# Altium schematic symbol library Power Supplies.SchLib: 89 symbols
Pins are listed as number, name and electrical type; pins without a type are passive.

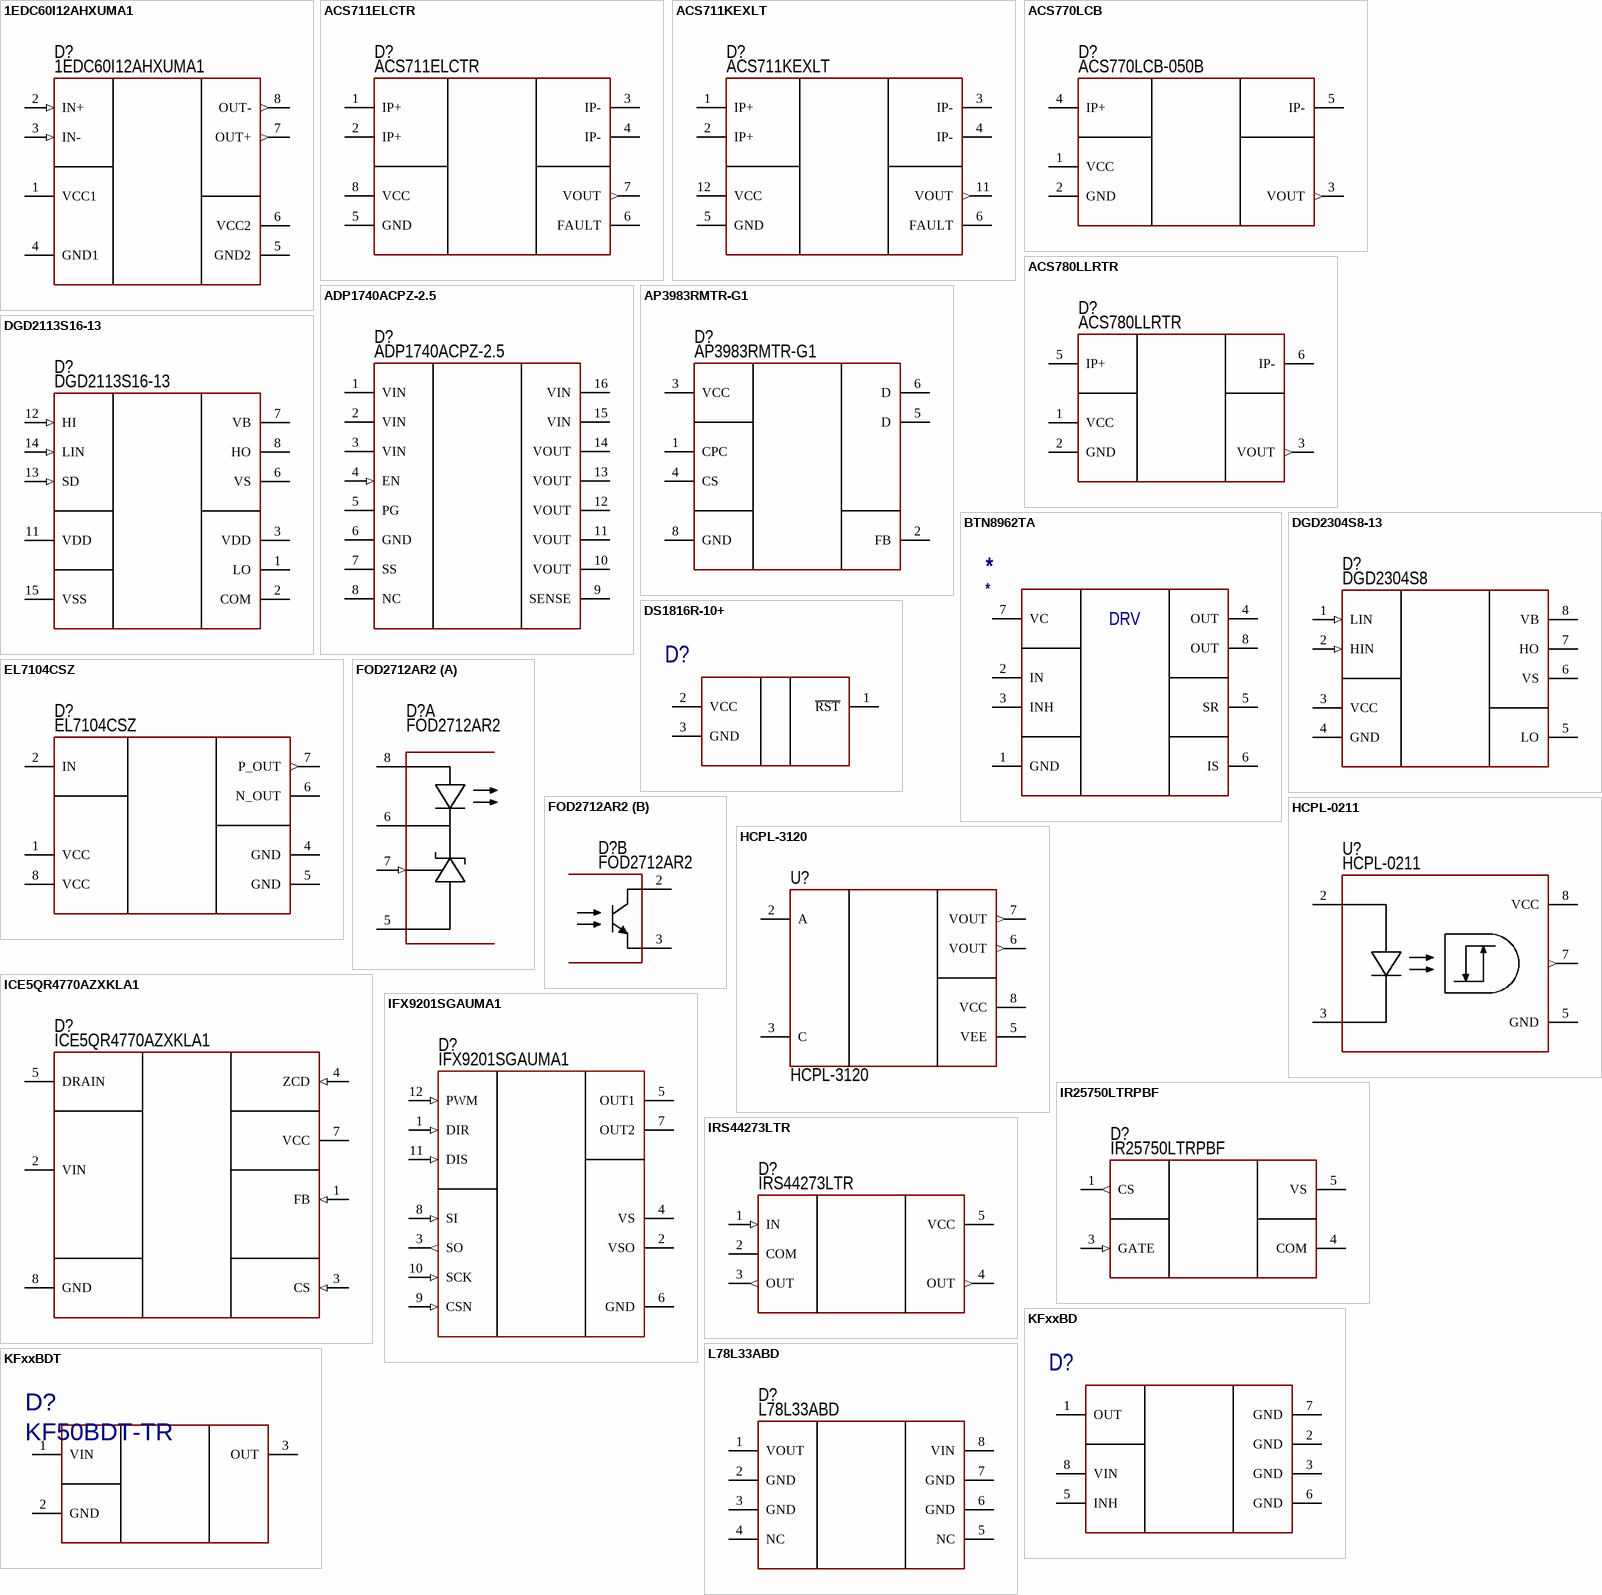
[diagram p0: symbols 1EDC60I12AHXUMA1 to L78L33ABD]

## 1EDC60I12AHXUMA1
designator D?
Driver; Manufacturer: Infineon Technologies; Model: 1EDC60I12AHXUMA1; HelpURL: https://ru.mouser.com/ProductDetail/Infineon-Technologies/1EDC60I12AHXUMA1?qs=%2fha2pyFaduiIlS5yEUGYV6QsF6GkGmNxTXgHdAe519b2q6MWBHFGMw%3d%3d; ComponentKind: 10A
footprint 8-SO (300 mill)
pins: 1 VCC1, 2 IN+ (in), 3 IN- (in), 4 GND1, 5 GND2, 6 VCC2, 7 OUT+ (out), 8 OUT- (out)

## ACS711ELCTR
designator D?
Sensor; Manufacturer: Allegro MicroSystems, LLC; Model: ACS711ELCTR-12AB-T; HelpURL: https://www.digikey.com/product-detail/en/allegro-microsystems-llc/ACS711ELCTR-12AB-T/620-1370-1-ND/2470594; ComponentKind: 8-SOIC
footprint 8-SOIC
pins: 1 IP+, 2 IP+, 3 IP-, 4 IP-, 5 GND, 6 FAULT, 7 VOUT (out), 8 VCC

## ACS711KEXLT
designator D?
Sensor; Manufacturer: Allegro MicroSystems, LLC; Model: ACS711KEXLT-31AB-T; HelpURL: https://www.digikey.com/product-detail/en/allegro-microsystems-llc/ACS711KEXLT-31AB-T/620-1482-1-ND/3868202; ComponentKind: 8-SOIC
footprint 12-WFQFN
pins: 1 IP+, 2 IP+, 3 IP-, 4 IP-, 5 GND, 6 FAULT, 11 VOUT (out), 12 VCC

## ACS770LCB
designator D?, comment ACS770LCB-050B
Sensor; Manufacturer: Allegro MicroSystems, LLC; Model: ACS770LCB-050B-PFF-T; HelpURL: https://www.digikey.com/product-detail/en/allegro-microsystems-llc/ACS770LCB-050B-PFF-T/620-1541-5-ND/4473980; ComponentKind: 40 mV/A
footprint IC: ACS770
pins: 1 VCC, 2 GND, 3 VOUT (out), 4 IP+, 5 IP-

## ACS780LLRTR
designator D?
Sensor; Manufacturer: Allegro MicroSystems, LLC; Model: ACS780LLRTR-050B-T; HelpURL: https://www.digikey.com/product-detail/en/allegro-microsystems-llc/ACS711KEXLT-31AB-T/620-1482-1-ND/3868202; ComponentKind: 7-PSOF
footprint 7-PSOF
pins: 1 VCC, 2 GND, 3 VOUT (out), 5 IP+, 6 IP-

## ADP1740ACPZ-2.5
designator D?
LDO; Manufacturer: Analog Devices Inc.; Model: ADP1740ACPZ-2.5-R7; ComponentKind: 16-LFCPS; HelpURL: https://www.digikey.com/product-detail/en/analog-devices-inc/ADP1740ACPZ-2.5-R7/ADP1740ACPZ-2.5-R7CT-ND/2217706
footprint 16-LFCPS (4x4)
pins: 1 VIN, 2 VIN, 3 VIN, 4 EN (in), 5 PG (oc), 6 GND, 7 SS, 8 NC, 9 SENSE, 10 VOUT, 11 VOUT, 12 VOUT, 13 VOUT, 14 VOUT, 15 VIN, 16 VIN

## AP3983RMTR-G1
designator D?
AC-DC; Manufacturer: Diodes Incorporated; Model: AP3983RMTR-G1; HelpURL: https://www.digikey.com/product-detail/en/diodes-incorporated/AP3983RMTR-G1/AP3983RMTR-G1DICT-ND/6181714; ComponentKind: 7-SOIC
footprint 7-SOIC (DIP; 7 Leads; Row Spacing 7.62 mm; Pitch 2.54 mm)
pins: 1 CPC, 2 FB, 3 VCC, 4 CS, 5 D, 6 D, 8 GND

## BTN8962TA
designator *
1-phase motor driver 30A; Manufacturer: Infineon; Model: BTN8962TA; Package: TO-263-7; Link: https://www.infineon.com/dgdl/Infineon-BTN8962TA-DS-v01_00-EN.pdf?fileId=db3a30433fa9412f013fbe2d247a7bf5
pins: 1 GND, 2 IN, 3 INH, 4 OUT, 5 SR, 6 IS, 7 VC, 8 OUT
text: DRV

## DGD2113S16-13
designator D?
Half-bridge; Manufacturer: Diodes Incorporated; Model: DGD2113S16-13; HelpURL: https://www.digikey.com/product-detail/en/diodes-incorporated/DGD2113S16-13/DGD2113S16-13DICT-ND/5823602; ComponentKind: 14-SOIC
footprint 16-SOIC (W)
pins: 1 LO, 2 COM, 3 VDD, 6 VS, 7 VB, 8 HO, 11 VDD (power), 12 HI (in), 13 SD (in), 14 LIN (in), 15 VSS

## DGD2304S8-13
designator D?, comment DGD2304S8
Half-bridge; Manufacturer: Diodes Incorporated; Model: DGD2304S8-13; HelpURL: https://www.digikey.com/product-detail/en/diodes-incorporated/DGD2304S8-13/DGD2304S8-13DICT-ND/6599778; ComponentKind: SO-8
footprint 8-SOIC
pins: 1 LIN (in), 2 HIN (in), 3 VCC, 4 GND, 5 LO, 6 VS, 7 HO, 8 VB

## DS1816R-10+
designator D?  (value not drawn)
3.3V EconoReset with Open Drain Output; Manufacturer: MAXIM; ValueManufacturerPartNumber: DS1816R-10+ MAXIM; Model: DS1816R-10+; Package: SOT-23; HelpURL: https://www.analog.com/media/en/technical-documentation/data-sheets/ds1816.pdf
pins: 1 ~{RST}, 2 VCC, 3 GND

## EL7104CSZ
designator D?
Driver; Manufacturer: Intersil; Model: EL7104CSZ; HelpURL: https://www.digikey.com/product-detail/en/intersil/EL7104CSZ/EL7104CSZ-ND/936206; ComponentKind: 8-SOIC
footprint 8-SOIC
pins: 1 VCC, 2 IN, 4 GND, 5 GND, 6 N_OUT, 7 P_OUT (out), 8 VCC

## FOD2712AR2
designator D?
TL431 and optoisolator; Manufacturer: ON Semiconductor; Model: FOD2712AR2; HelpURL: https://ru.mouser.com/ProductDetail/ON-Semiconductor-Fairchild/FOD2712AR2?qs=sGAEpiMZZMteimceiIVCBwA1J%252bDHtzEiRXt34UMTHvg%3d; ComponentKind: 8-SOIC
footprint 8-SOIC
part A pins: 5 GND (power), 6 COMP (power), 7 FB (in), 8 LED (power)
part B pins: 2 C (power), 3 E (power)

## HCPL-0211
designator U?
Optoisolator; Manufacturer: Broadcom-Limited; Model: HCPL-0211-000E; ComponentKind: 8-DIP; HelpURL: https://www.digikey.com/product-detail/en/broadcom-limited/HCPL-0211-000E/516-1625-5-ND/825261
footprint OPTO: HCPL-3120
pins: 2 A, 3 C, 5 GND, 7 VOUT (out), 8 VCC

## HCPL-3120
designator U?
Optoisolator; Manufacturer: Broadcom-Limited; Model: HCPL-3120-500E; ComponentKind: 8-DIP; HelpURL: https://www.digikey.com/product-detail/en/broadcom-limited/HCPL-3120-500E/516-1789-1-ND/1966495
footprint 8-DIP
footprint OPTO: HCPL-3120
pins: 2 A, 3 C, 5 VEE, 6 VOUT (out), 7 VOUT (out), 8 VCC

## ICE5QR4770AZXKLA1
designator D?
AC-DC; Manufacturer: Infineon Technologies; Model: ICE5QR4770AZXKLA1; HelpURL: https://www.digikey.com/products/en?keywords=ICE5QR4770AZ%20; ComponentKind: PDIP-7
footprint 7-DIP (DIP; 7 Leads; Row Spacing 7.62 mm; Pitch 2.54 mm)
pins: 1 FB (in), 2 VIN (power), 3 CS (in), 4 ZCD (in), 5 DRAIN (power), 7 VCC (power), 8 GND (power)

## IFX9201SGAUMA1
designator D?
Driver motor; Manufacturer: Infineon Technologies; Model: IFX9201SGAUMA1; HelpURL: https://www.digikey.com/product-detail/en/infineon-technologies/IFX9201SGAUMA1/IFX9201SGAUMA1CT-ND/5415560; ComponentKind: 6A
footprint 12-BSOP
pins: 1 DIR (in), 2 VSO, 3 SO (out), 4 VS, 5 OUT1, 6 GND, 7 OUT2, 8 SI (in), 9 CSN (in), 10 SCK (in), 11 DIS (in), 12 PWM (in)

## IR25750LTRPBF
designator D?
Sensor; Manufacturer: Infineon Technologies; Model: IR25750LTRPBF; ComponentKind: SOT23-5; HelpURL: https://www.digikey.com/product-detail/en/infineon-technologies/IR25750LTRPBF/IR25750LTRPBFCT-ND/4743688
footprint SOT23-5 (SOT23, 5-Leads, Body 2,90x2,80mm, Pitch 0,95mm, IPC Medium Density)
pins: 1 CS (out), 3 GATE (in), 4 COM (power), 5 VS (power)

## IRS44273LTR
designator D?
Low driver; Manufacturer: Infineon Technologies; Model: IRS44273LTRPBF; ComponentKind: SOT23-5; HelpURL: https://www.digikey.com/product-detail/en/infineon-technologies/IRS44273LTRPBF/IRS44273LTRPBFCT-ND/4172095
footprint SOT23-5 (SOT23, 5-Leads, Body 2,90x2,80mm, Pitch 0,95mm, IPC Medium Density)
pins: 1 IN (in), 2 COM, 3 OUT (out), 4 OUT (out), 5 VCC

## KFxxBD
designator D?, comment Model  (value not drawn)
Very low drop voltage regulators with inhibit; Manufacturer: ST MICROELECTRONICS; ValueManufacturerPartNumber: KF33BD-TR ST MICROELECTRONICS; Model: KF33BD-TR; Package: SO-8; HelpURL: https://imrad.com.ua/userdata/modules/productFiles/34bwLG9k_KFxx.pdf
footprint 8-SOIC
pins: 1 OUT, 2 GND, 3 GND, 5 INH, 6 GND, 7 GND, 8 VIN

## KFxxBDT
designator D?, comment KF50BDT-TR
Very low drop voltage regulators with inhibit; Manufacturer: ST MICROELECTRONICS; ValueManufacturerPartNumber: KF50BDT-TR ST MICROELECTRONICS; Model: KF50BDT-TR; HelpURL: https://www.digikey.at/en/products/detail/stmicroelectronics/KF50BDT-TR/585673; Package: DPAK
pins: 1 VIN, 2 GND, 3 OUT

## L78L33ABD
designator D?
LDO; Manufacturer: STMicroelectronics; Model: L78L33ABD-TR; HelpURL: https://www.digikey.com/product-detail/en/stmicroelectronics/L78L33ABD-TR/497-7285-1-ND/1883420; ComponentKind: 100 mA
footprint 8-SOIC
footprint 8-WSON (4x4 mm)
pins: 1 VOUT, 2 GND, 3 GND, 4 NC, 5 NC, 6 GND, 7 GND, 8 VIN

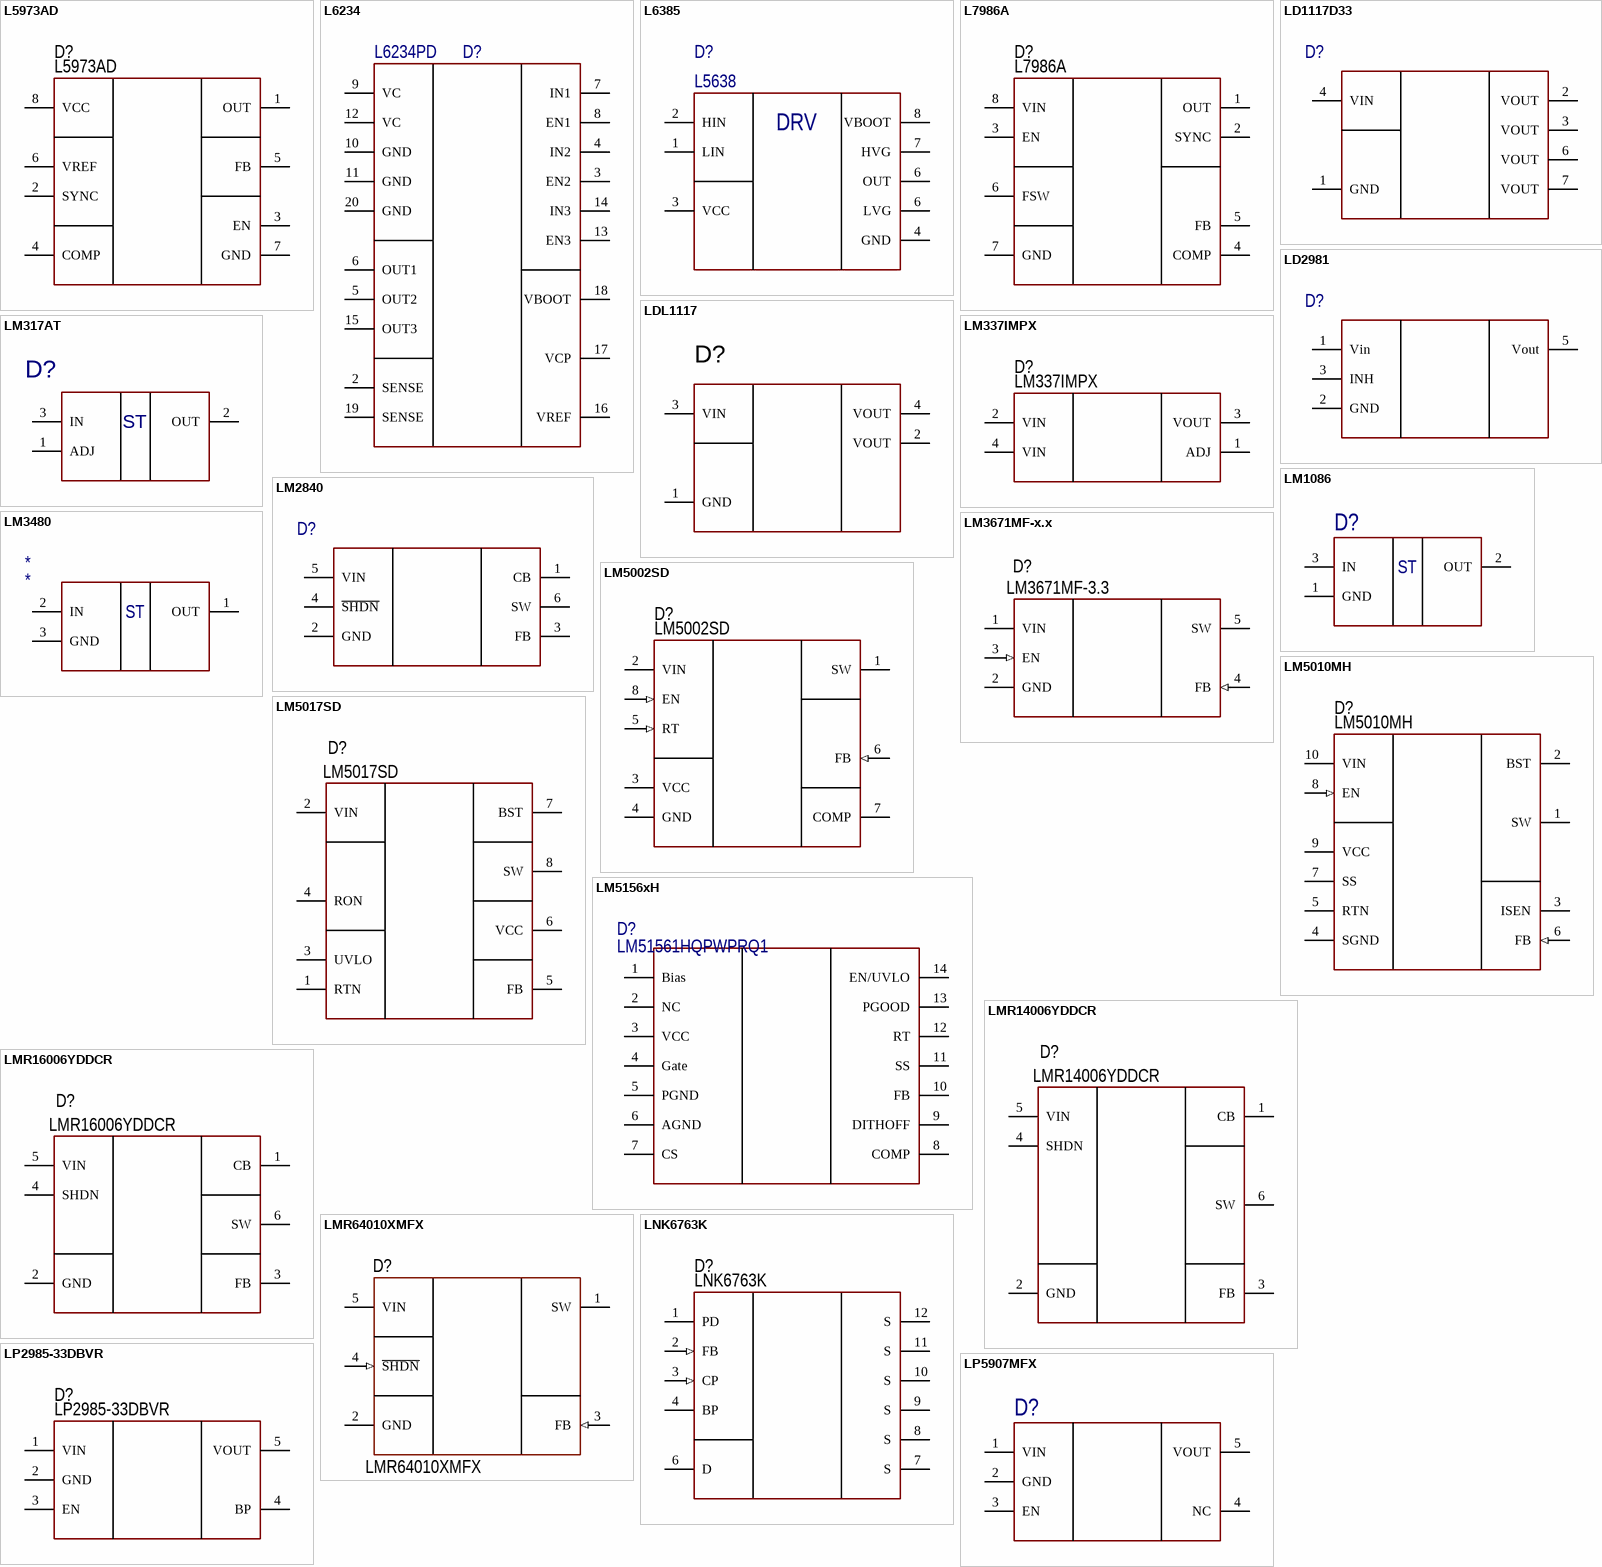
[diagram p1: symbols L5973AD to LP5907MFX]

## L5973AD
designator D?
Step-down; Manufacturer: STMicroelectronics; Model: L5973AD; HelpURL: https://www.digikey.com/product-detail/en/stmicroelectronics/L5973AD/497-4565-5-ND/585938; ComponentKind: 8-SOIC
footprint 8-SOIC (PAD)
pins: 1 OUT, 2 SYNC, 3 EN, 4 COMP, 5 FB, 6 VREF, 7 GND, 8 VCC

## L6234
designator D?, comment L6234PD
3-phase motor driver; Manufacturer: STMicroelectronics; Model: L6234PD; Package: PowerSO-20; Link: https://www.st.com/resource/en/datasheet/l6234.pdf
footprint 20-TSSOP (PAD)
pins: 2 SENSE, 3 EN2, 4 IN2, 5 OUT2, 6 OUT1, 7 IN1, 8 EN1, 9 VC, 10 GND, 11 GND, 12 VC, 13 EN3, 14 IN3, 15 OUT3, 16 VREF, 17 VCP, 18 VBOOT, 19 SENSE, 20 GND

## L6385
designator D?, comment L5638
Manufacturer: STMicroelectronics; Model: L5638; Package: DIP-8; HelpURL: https://www.st.com/resource/en/datasheet/CD00001382.pdf
footprint 8-DIP
pins: 1 LIN, 2 HIN, 3 VCC, 4 GND, 6 OUT, 6 LVG, 7 HVG, 8 VBOOT
text: DRV

## L7986A
designator D?
Step-down; Manufacturer: STMicroelectronics; Model: L7986A; HelpURL: https://www.digikey.com/product-detail/en/stmicroelectronics/L7986A/497-14791-5-ND/4357446; ComponentKind: 8-SOIC
footprint 8-SOIC (PAD)
pins: 1 OUT, 2 SYNC, 3 EN, 4 COMP, 5 FB, 6 FSW, 7 GND, 8 VIN

## LD1117D33
designator D?  (value not drawn)
0.5A linear regulator; Manufacturer: ST MICROELECTRONICS; Model: LD1117D33; HelpURL: https://www.digikey.com/en/products/detail/stmicroelectronics/LD1117D33TR/1165909; Package: SOIC-8
footprint 8-SOIC
pins: 1 GND (power), 2 VOUT (power), 3 VOUT (power), 4 VIN (power), 6 VOUT, 7 VOUT

## LD2981
designator D?, comment LD2981ABM50TR  (value not drawn)
100 mA LDO; Manufacturer: ST MICTOELECTRONICS; ValueManufacturerPartNumber: LD2981ABM50TR ST MICTOELECTRONICS; Model: LD2981ABM50TR; HelpURL: https://www.st.com/content/ccc/resource/technical/document/datasheet/group1/b7/b5/a1/83/9c/bd/4a/90/CD00001635/files/CD00001635.pdf/jcr:content/translations/en.CD00001635.pdf; Package: SOT23-5L
pins: 1 Vin (power), 2 GND, 3 INH, 5 Vout

## LDL1117
designator D?, comment LDL1117S33R  (value not drawn)
LDO; Manufacturer: STMicroelectronics; ValueManufacturerPartNumber: LDL1117S33R STMicroelectronics; Model: LDL1117S33R; HelpURL: https://www.digikey.com/en/products/detail/stmicroelectronics/LDL1117S50R/7102072; ComponentKind: SOT-223
footprint SOT223 (SOT223, 4-Leads, Body 6,50x7,00mm (avg), Pitch 2,30mm, IPC Medium Density)
pins: 1 GND (power), 2 VOUT (power), 3 VIN (power), 4 VOUT (power)

## LM317AT
designator D?, comment LM317AT/NOPB  (value not drawn)
1.5-A, 40-V, adjustable linear voltage regulator with high-accuracy; Manufacturer: TEXAS INSTRUMENTS; ValueManufacturerPartNumber: LM317AT/NOPB TEXAS INSTRUMENTS; Model: LM317AT/NOPB; HelpURL: https://www.ti.com/product/LM317A/part-details/LM317AT/NOPB; Package: TO-220
pins: 1 ADJ, 2 OUT, 3 IN
text: ST

## LM337IMPX
designator D?
LDO adj; Model: LM337IMPX/NOPB; Model: Texas Instruments; HelpURL: https://www.digikey.com/product-detail/en/texas-instruments/LM337IMPX-NOPB/LM337IMPX-NOPBCT-ND/3526950; ComponentKind: SOT-223
footprint SOT223 (SOT223, 4-Leads, Body 6,50x7,00mm (avg), Pitch 2,30mm, IPC Medium Density)
pins: 1 ADJ, 2 VIN, 3 VOUT (power), 4 VIN

## LM1086
designator D?  (value not drawn)
1.5A LDO positive regulator; Manufacturer: National Semiconductor; Model: LM1086; Link: https://www.farnell.com/datasheets/36822.pdf
footprint Model Name (Footprint not found)
pins: 1 GND, 2 OUT, 3 IN
text: ST

## LM2840
designator D?  (value not drawn)
Manufacturer: Texas Instruments; Model: LM284x(0,2,3); Package: SOT-23-6; HelpURL: http://www.ti.com/product/LM2841
footprint SOT23-6 (SOT23, 6-Leads, Body 2,90x2,45mm, Pitch 0,95mm, IPC Medium Density)
pins: 1 CB (power), 2 GND (power), 3 FB, 4 ~{SHDN} (hiz), 5 VIN (power), 6 SW (power)

## LM3480
designator *
3.3/5/12V 100mA LDO; Manufacturer: TEXAS INSTRUMENTS; Model: LM3480; ComponentKind: *
footprint SOT23_132 (SOT23, 3-Leads, Body 3,0x2,6mm (max), Pitch 0,95mm, IPC Medium Density)
pins: 1 OUT, 2 IN, 3 GND
text: ST

## LM3671MF-x.x
designator D?, comment LM3671MF-3.3
Step-down; Manufacturer: Texas Instruments; Model: LM3671MF-3.3/NOPB; HelpURL: https://www.digikey.com/product-detail/en/texas-instruments/LM3671MF-3.3-NOPB/LM3671MF-3.3-NOPBCT-ND/1590190; ComponentKind: SOT23-5
footprint SOT23-5 (SOT23, 5-Leads, Body 2,90x2,80mm, Pitch 0,95mm, IPC Medium Density)
pins: 1 VIN (power), 2 GND (power), 3 EN (in), 4 FB (in), 5 SW (power)

## LM5002SD
designator D?
SEPIC; Manufacturer: Texas Instruments; Model: LM5002SD/NOPB; HelpURL: https://www.digikey.com/product-detail/en/texas-instruments/LM5002SD-NOPB/LM5002SD-NOPBCT-ND/1836135; ComponentKind: 8-SOIC
footprint 8-SOIC
footprint 8-WSON (4x4 mm)
pins: 1 SW, 2 VIN, 3 VCC, 4 GND, 5 RT (in), 6 FB (in), 7 COMP, 8 EN (in)

## LM5010MH
designator D?
Step-down; Manufacturer: Texas Instruments; Model: LM5010MH/NOPB; HelpURL: https://www.digikey.com/products/en?keywords=LM5010MH%2FNOPB; ComponentKind: 14-TSSOP
footprint 10-WSON (4x4 mm)
pins: 1 SW, 2 BST, 3 ISEN, 4 SGND, 5 RTN, 6 FB (in), 7 SS, 8 EN (in), 9 VCC, 10 VIN

## LM5017SD
designator D?
Step-down; Manufacturer: Texas Instruments; Model: LM5017SD/NOPB; HelpURL: https://www.digikey.com/product-detail/en/texas-instruments/LM5017SD-NOPB/LM5017SD-NOPBCT-ND/3137455; ComponentKind: 8-WDFN
footprint 8-WDFN (4x4 mm)
pins: 1 RTN, 2 VIN, 3 UVLO, 4 RON, 5 FB, 6 VCC, 7 BST, 8 SW

## LM5156xH
designator D?, comment LM51561HQPWPRQ1
Non-synchronous Boost/SEPIC/Flyback Controller; Manufacturer: TEXAS INSTRUMENTS; Model: LM51561HQPWPRQ1; HelpURL: https://www.ti.com/product/LM5156H; Package: HTSSOP-14
pins: 1 Bias "exposed metal paddle on the bottom", 2 NC "exposed metal paddle on the bottom", 3 VCC "exposed metal paddle on the bottom", 4 Gate "exposed metal paddle on the bottom", 5 PGND "exposed metal paddle on the bottom", 6 AGND "exposed metal paddle on the bottom", 7 CS "exposed metal paddle on the bottom", 8 COMP "exposed metal paddle on the bottom", 9 DITHOFF "exposed metal paddle on the bottom", 10 FB "exposed metal paddle on the bottom", 11 SS, 12 RT, 13 PGOOD, 14 EN/UVLO

## LMR14006YDDCR
designator D?
Step-down; Manufacturer: Texas Instruments; Model: LMR14006YDDCR; HelpURL: https://www.digikey.com/product-detail/en/texas-instruments/LMR14006YDDCR/296-44319-1-ND/6110593; ComponentKind: SOT23-6
footprint SOT23-6 (SOT23, 6-Leads, Body 2,90x2,45mm, Pitch 0,95mm, IPC Medium Density)
pins: 1 CB (power), 2 GND (power), 3 FB (power), 4 SHDN (power), 5 VIN (power), 6 SW (power)

## LMR16006YDDCR
designator D?
Step-down; Manufacturer: Texas Instruments; Model: LMR16006YDDCR; HelpURL: https://www.digikey.com/product-detail/en/texas-instruments/LMR16006YDDCR/296-40294-1-ND/5178171; ComponentKind: SOT23-6
footprint SOT23-6 (SOT23, 6-Leads, Body 2,90x2,45mm, Pitch 0,95mm, IPC Medium Density)
pins: 1 CB (power), 2 GND (power), 3 FB (power), 4 SHDN (power), 5 VIN (power), 6 SW (power)

## LMR64010XMFX
designator D?
Step-down; Manufacturer: Texas Instruments; Model: LMR64010XMFX/NOPB; HelpURL: https://www.digikey.com/product-detail/en/texas-instruments/LMR64010XMFX-NOPB/296-38771-1-ND/5125873; ComponentKind: SOT23-5
footprint SOT23-5 (SOT23, 5-Leads, Body 2,90x2,80mm, Pitch 0,95mm, IPC Medium Density)
pins: 1 SW, 2 GND, 3 FB (in), 4 ~{SHDN} (in), 5 VIN

## LNK6763K
designator D?
AC-DC; Manufacturer: Power Integrations; Model: LNK6763K; HelpURL: https://ru.mouser.com/ProductDetail/Power-Integrations/LNK6763K?qs=sGAEpiMZZMupfmEBr0XgrNIjmfCWM7Y3iCpws1J1Jg1HNca2zLN38A%3d%3d; ComponentKind: eSOP-12B
footprint 12-eSOP
pins: 1 PD (power), 2 FB (in), 3 CP (in), 4 BP (power), 6 D (power), 7 S (power), 8 S (power), 9 S (power), 10 S (power), 11 S (power), 12 S (power)

## LP2985-33DBVR
designator D?
LDO; Model: Texas Instruments; Model: LP2985-33DBVR; HelpURL: https://www.digikey.com/product-detail/en/texas-instruments/LP2985-33DBVR/296-18476-1-ND/809911; ComponentKind: SOT-23-5
footprint SOT23-5 (SOT23, 5-Leads, Body 2,90x2,80mm, Pitch 0,95mm, IPC Medium Density)
pins: 1 VIN, 2 GND, 3 EN (power), 4 BP, 5 VOUT

## LP5907MFX
designator D?, comment LP5907MFX-3.3/NOPB  (value not drawn)
250-mA, Ultra-Low-Noise, Low-Iq LDO; Manufacturer: TEXAS INSTRUMENTS; ValueManufacturerPartNumber: LP5907MFX-3.3/NOPB TEXAS INSTRUMENTS; Model: LP5907MFX-3.3/NOPB; HelpURL: https://www.ti.com/lit/ds/symlink/lp5907.pdf; Package: SOT-23
pins: 1 VIN, 2 GND, 3 EN (power), 4 NC, 5 VOUT

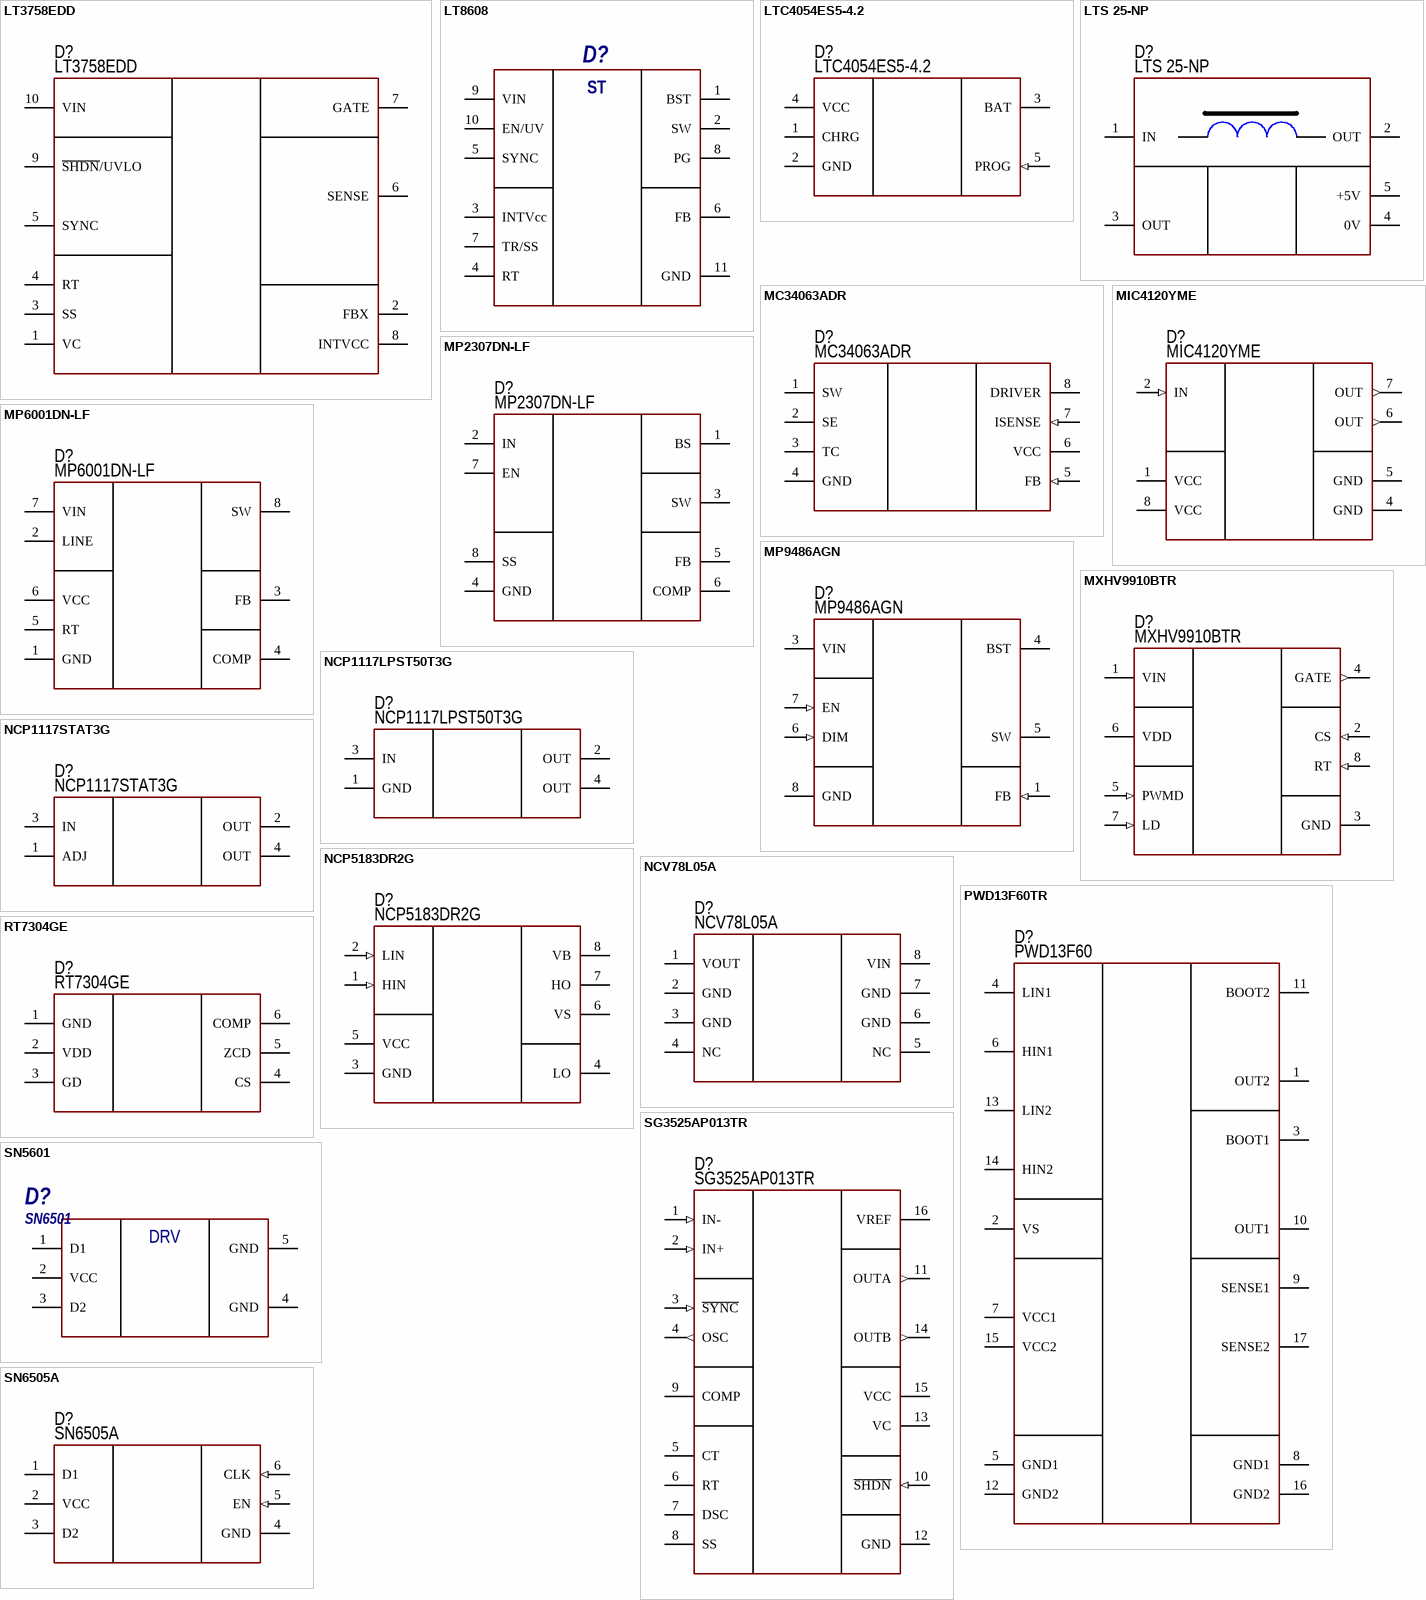
[diagram p2: symbols LT3758EDD to SN6505A]

## LT3758EDD
designator D?
SEPIC; Manufacturer: Linear Technology; Model: LT3758EDD#PBF; HelpURL: https://www.digikey.com/product-detail/en/linear-technology/LT3758EDD-PBF/LT3758EDD-PBF-ND/2107630; ComponentKind: 10-DFN
footprint 10-DFN (QFN, 10-Leads, Body 3,00x3,00mm, Pitch 0,50mm, Thermal Pad 3,18x1,58mm, IPC Medium Density)
pins: 1 VC (power), 2 FBX (power), 3 SS (power), 4 RT (power), 5 SYNC (power), 6 SENSE (power), 7 GATE (power), 8 INTVCC (power), 9 ~{SHDN}/UVLO (power), 10 VIN (power)

## LT8608
designator D?, comment LT8608EMSE#TRPBF  (value not drawn)
3.8 to 42V 1.5A buck converter; Manufacture: Analog Devices; Model: LT8608EMSE#TRPBF; Package: Power MSOP-10; Link: https://www.analog.com/media/en/technical-documentation/data-sheets/lt8608.pdf
pins: 1 BST, 2 SW, 3 INTVcc, 4 RT, 5 SYNC, 6 FB, 7 TR/SS, 8 PG, 9 VIN, 10 EN/UV, 11 GND
text: ST

## LTC4054ES5-4.2
designator D?
Li-ion chargers; Manufacturer: Linear Technology; Model: LTC4054ES5-4.2#TRMPBF; ComponentKind: SOT23-5; HelpURL: https://www.digikey.com/product-detail/en/linear-technology/LTC4054ES5-4.2-TRMPBF/LTC4054ES5-4.2-TRMPBFCT-ND/4729365
footprint SOT23-5 (SOT23, 5-Leads, Body 2,90x2,80mm, Pitch 0,95mm, IPC Medium Density)
pins: 1 CHRG (oc), 2 GND, 3 BAT, 4 VCC, 5 PROG (in)

## LTS 25-NP
designator D?
Sensor; Manufacturer: LEM; Model: LTS 25-NP; HelpURL: https://www.digikey.com/product-detail/en/lem-usa-inc/LTS-25-NP/398-1002-ND/409815; ComponentKind: 25A
footprint IC: LTS 25-NP
pins: 1 IN, 2 OUT, 3 OUT, 4 0V, 5 +5V

## MC34063ADR
designator D?
Sensor; Manufacturer: Texas Instruments; Model: MC34063ADR; HelpURL: https://www.digikey.com/product-detail/en/texas-instruments/MC34063ADR/296-17765-1-ND/717456; ComponentKind: 8-SOIC
footprint 8-SOIC
pins: 1 SW, 2 SE, 3 TC, 4 GND, 5 FB (in), 6 VCC (power), 7 ISENSE (in), 8 DRIVER

## MIC4120YME
designator D?
Low driver; Manufacturer: Microchip Technology; Model: MIC4120YME; HelpURL: https://www.digikey.com/product-detail/en/microchip-technology/MIC4120YME/576-1445-ND/952832; ComponentKind: 8-SOIC
footprint 8-SOIC (PAD)
pins: 1 VCC (power), 2 IN (in), 4 GND (power), 5 GND (power), 6 OUT (out), 7 OUT (out), 8 VCC (power)

## MP2307DN-LF
designator D?
Step-down; Manufacturer: Monolithic-Power-Systems-Inc.; Model: MP2307DN-LF; HelpURL: https://www.digikey.com/product-detail/en/monolithic-power-systems-inc/MP2307DN-LF/MP2307DN-LF-ND/5292006; ComponentKind: 8-SOIC
footprint 8-SOIC (PAD)
pins: 1 BS, 2 IN, 3 SW, 4 GND, 5 FB, 6 COMP, 7 EN, 8 SS

## MP6001DN-LF
designator D?
DC-DC; Manufacturer: Monolithic Power Systems Inc.; Model: MP6001DN-LF; HelpURL: https://www.digikey.com/product-detail/en/monolithic-power-systems-inc/MP6001DN-LF/1589-1409-ND/5299166; ComponentKind: 8-SOIC
footprint 8-SOIC (PAD)
pins: 1 GND (power), 2 LINE (power), 3 FB (power), 4 COMP (power), 5 RT (power), 6 VCC (power), 7 VIN (power), 8 SW (power)

## MP9486AGN
designator D?
Buck 100V; Manufacturer: Monolithic Power Systems; Model: MP9486AGN; HelpURL: https://ru.mouser.com/ProductDetail/Monolithic-Power-Systems-MPS/MP9486AGN?qs=sGAEpiMZZMtitjHzVIkrqZzDzZChF5ZsZydRoiA0koGaJF85HB9DFA%3d%3d; ComponentKind: 8-SOIC
footprint 8-SOIC (PAD)
pins: 1 FB (in), 3 VIN, 4 BST, 5 SW, 6 DIM (in), 7 EN (in), 8 GND

## MXHV9910BTR
designator D?
LED; Manufacturer: IXYS; Model: MXHV9910BTR; HelpURL: https://ru.mouser.com/ProductDetail/IXYS-Integrated-Circuits/MXHV9910BTR?qs=sGAEpiMZZMsE420DPIasPpp3DYFWEtAHBJIqVZemVsM%3d; ComponentKind: 450V
footprint 8-SOIC (PAD)
pins: 1 VIN, 2 CS (in), 3 GND, 4 GATE (out), 5 PWMD (in), 6 VDD, 7 LD (in), 8 RT (in)

## NCP1117LPST50T3G
designator D?
LDO; Manufacturer: ON Semiconductor; Model: NCP1117LPST50T3G; HelpURL: https://www.digikey.com/product-detail/en/on-semiconductor/NCP1117LPST50T3G/NCP1117LPST50T3GOSCT-ND/5801728; ComponentKind: SOT-223
footprint SOT223 (SOT223, 4-Leads, Body 6,50x7,00mm (avg), Pitch 2,30mm, IPC Medium Density)
pins: 1 GND, 2 OUT, 3 IN (power), 4 OUT

## NCP1117STAT3G
designator D?
LDO adj; Manufacturer: ON Semiconductor; Model: NCP1117STAT3G; HelpURL: https://www.digikey.com/product-detail/en/on-semiconductor/NCP1117STAT3G/NCP1117STAT3GOSCT-ND/1967218; ComponentKind: SOT-223
footprint SOT223 (SOT223, 4-Leads, Body 6,50x7,00mm (avg), Pitch 2,30mm, IPC Medium Density)
pins: 1 ADJ, 2 OUT, 3 IN (power), 4 OUT

## NCP5183DR2G
designator D?
Half-bridge; Manufacturer: ON Semiconductor; Model: NCP5183DR2G; HelpURL: https://www.digikey.com/product-detail/en/on-semiconductor/NCP5183DR2G/NCP5183DR2GOSCT-ND/7066807; ComponentKind: SO-8
footprint 8-SOIC
pins: 1 HIN (in), 2 LIN (in), 3 GND, 4 LO, 5 VCC, 6 VS, 7 HO, 8 VB

## NCV78L05A
designator D?
LDO; Manufacturer: ON Semiconductor; Model: NCV78L05ABDR2G; HelpURL: https://www.digikey.com/product-detail/en/on-semiconductor/NCV78L05ABDR2G/NCV78L05ABDR2GOSCT-ND/2121802; ComponentKind: 100 mA
footprint 8-SOIC
footprint 8-WSON (4x4 mm)
pins: 1 VOUT, 2 GND, 3 GND, 4 NC, 5 NC, 6 GND, 7 GND, 8 VIN

## PWD13F60TR
designator D?, comment PWD13F60
Driver; Manufacturer: STMicroelectronics; Model: PWD13F60TR; HelpURL: https://eu.mouser.com/ProductDetail/STMicroelectronics/PWD13F60TR?qs=sGAEpiMZZMvQcoNRkxSQkrCct0Ka50aE%252bcYvBLcmx8s%3d; ComponentKind: 10-PowerVFQFN
footprint 10-PowerVFQFN
pins: 1 OUT2 (power), 2 VS (power), 3 BOOT1 (power), 4 LIN1 (power), 5 GND1 (power), 6 HIN1 (power), 7 VCC1 (power), 8 GND1 (power), 9 SENSE1 (power), 10 OUT1 (power), 11 BOOT2 (power), 12 GND2 (power), 13 LIN2 (power), 14 HIN2 (power), 15 VCC2 (power), 16 GND2 (power), 17 SENSE2 (power)

## RT7304GE
designator D?
LED+PFC; Manufacturer: Richtek USA Inc.; Model: RT7304GE; HelpURL: https://www.digikey.com/product-detail/en/richtek-usa-inc/RT7304GE/1028-1279-1-ND/4733238; ComponentKind: SOT23-6
footprint SOT23-6 (SOT23, 6-Leads, Body 2,90x2,45mm, Pitch 0,95mm, IPC Medium Density)
pins: 1 GND, 2 VDD, 3 GD, 4 CS, 5 ZCD, 6 COMP

## SG3525AP013TR
designator D?
PWM; Manufacturer: STMicroelectronics; Model: SG3525AP013TR; HelpURL: https://ru.mouser.com/ProductDetail/STMicroelectronics/SG3525AP013TR?qs=sGAEpiMZZMvFgFrcgbsedXe936HDN%2fOkZktnCRiEFec%3d; ComponentKind: 16-SOIC
footprint 16-SOIC
pins: 1 IN- (in), 2 IN+ (in), 3 ~{SYNC} (in), 4 OSC (out), 5 CT, 6 RT, 7 DSC, 8 SS, 9 COMP, 10 ~{SHDN} (in), 11 OUTA (out), 12 GND (power), 13 VC (power), 14 OUTB (out), 15 VCC (power), 16 VREF (power)

## SN5601
designator D?, comment SN6501
Manufacture: Texas Instruments; Model: SN6501; Package: SOT-23; Link: https://www.ti.com/lit/ds/symlink/sn6501.pdf
footprint SOT23-5 (SOT23, 5-Leads, Body 2,90x2,80mm, Pitch 0,95mm, IPC Medium Density)
pins: 1 D1 (power), 2 VCC (power), 3 D2 (power), 4 GND (power), 5 GND
text: DRV

## SN6505A
designator D?
DC/DC isolator; Manufacturer: Texas Instruments; Model: SN6505ADBVR; HelpURL: https://ru.mouser.com/ProductDetail/Texas-Instruments/SN6505ADBVR?qs=sGAEpiMZZMtWuggIubTlf7ZhnwR1T7p0KIMCkU%252bZacE%3d; ComponentKind: SOT23-6
footprint SOT23-6 (SOT23, 6-Leads, Body 2,90x2,45mm, Pitch 0,95mm, IPC Medium Density)
pins: 1 D1 (power), 2 VCC (power), 3 D2 (power), 4 GND (power), 5 EN (in), 6 CLK (in)

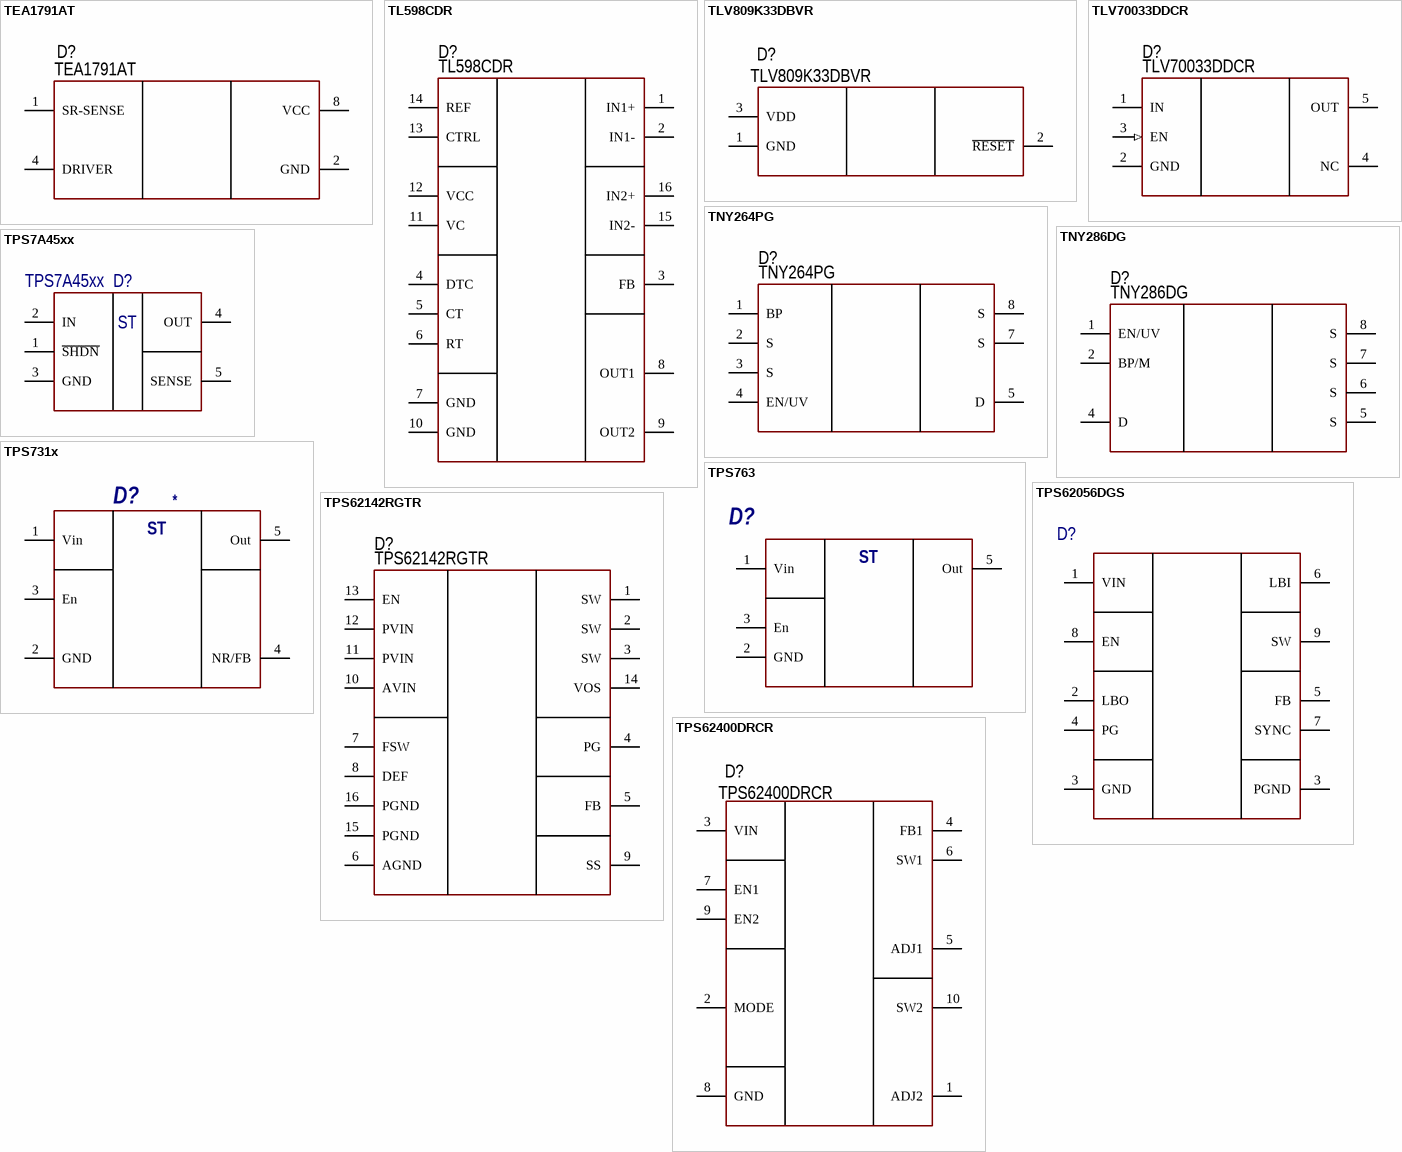
[diagram p3: symbols TEA1791AT to TPS62400DRCR]

## TEA1791AT
designator D?
Sync rectifier; Manufacturer: NXP USA Inc.; Model: TEA1791AT/N1,118; HelpURL: https://www.digikey.com/product-detail/en/nxp-usa-inc/TEA1791AT-N1,118/568-5964-1-ND/2531251; ComponentKind: 8-SOIC
footprint 8-SOIC
pins: 1 SR-SENSE, 2 GND, 4 DRIVER, 8 VCC

## TL598CDR
designator D?
PWM; Manufacturer: Texas Instruments; Model: TL598CDR; HelpURL: https://www.digikey.com/product-detail/en/texas-instruments/TL598CDR/296-36983-1-ND/4428929; ComponentKind: 16-SOIC
footprint 16-SOIC
pins: 1 IN1+, 2 IN1-, 3 FB, 4 DTC, 5 CT, 6 RT, 7 GND, 8 OUT1, 9 OUT2, 10 GND, 11 VC, 12 VCC, 13 CTRL, 14 REF, 15 IN2-, 16 IN2+

## TLV809K33DBVR
designator D?
Supervisors; Manufacturer: Texas Instruments; Model: TLV809K33DBVR; HelpURL: https://www.digikey.com/product-detail/en/texas-instruments/TLV809K33DBVR/296-39291-1-ND/5143282; ComponentKind: SOT23
footprint SOT23_132 (SOT23, 3-Leads, Body 3,0x2,6mm (max), Pitch 0,95mm, IPC Medium Density)
pins: 1 GND, 2 ~{RESET}, 3 VDD

## TLV70033DDCR
designator D?
LDO; Model: Texas Instruments; Model: TLV70033DDCR; HelpURL: https://www.digikey.com/product-detail/en/texas-instruments/TLV70033DDCR/296-27937-1-ND/2440840; ComponentKind: SOT23-5
footprint SOT23-5 (SOT23, 5-Leads, Body 2,90x2,80mm, Pitch 0,95mm, IPC Medium Density)
pins: 1 IN, 2 GND, 3 EN (in), 4 NC, 5 OUT

## TNY264PG
designator D?
AC-DC; Manufacturer: Power Integrations; Model: TNY264PG; ComponentKind: 7-DIP; HelpURL: https://www.digikey.com/products/en/integrated-circuits-ics/pmic-ac-dc-converters-offline-switchers/748?k=TNY264&k=&pkeyword=TNY264&pv1989=0&FV=ffe002ec&mnonly=0&ColumnSort=0&page=1&stock=1&quantity=0&ptm=0&fid=0&pageSize=25
footprint 7-DIP (DIP; 7 Leads; Row Spacing 7.62 mm; Pitch 2.54 mm)
pins: 1 BP, 2 S, 3 S, 4 EN/UV, 5 D, 7 S, 8 S

## TNY286DG
designator D?
AC-DC; Manufacturer: Power Integrations; Model: TNY286DG-TL; ComponentKind: 7-SOIC; HelpURL: https://www.digikey.com/product-detail/en/power-integrations/TNY286DG-TL/596-1582-1-ND/6964987
footprint IC: TNY286DG
pins: 1 EN/UV, 2 BP/M, 4 D, 5 S, 6 S, 7 S, 8 S

## TPS7A45xx
designator D?
Low-Noise Fast-Transient-Response 1.5-A Low-Dropout Voltage Regulators; Manufacturer: Texas Instruments; Model: TPS7A45xx; Link: *
pins: 1 ~{SHDN}, 2 IN, 3 GND, 4 OUT, 5 SENSE
text: ST

## TPS731x
designator D?
LDO; Manufacture: Texas Instruments; Model: *; Package: SOT23; Link: http://www.ti.com/lit/ds/symlink/tps73130-ep.pdf
pins: 1 Vin, 2 GND, 3 En, 4 NR/FB, 5 Out
text: ST

## TPS763
designator D?  (value not drawn)
Manufacturer: Texas Instruments; Model: *; Package: SOT-23; Link: https://www.ti.com/lit/ds/symlink/tps763.pdf
footprint SOT23-5 (SOT23, 5-Leads, Body 2,90x2,80mm, Pitch 0,95mm, IPC Medium Density)
pins: 1 Vin, 2 GND, 3 En, 5 Out
text: ST

## TPS62056DGS
designator D?, comment TPS62056DGSR  (value not drawn)
Buck Switching Regulator IC Positive Fixed 3.3V 0.8A; Manufacturer: TEXAS INSTRUMENTS; Model: TPS62056DGSR; Package: 10-VSSOP; HelpURL: https://www.ti.com/product/TPS62056; ComponentKind: Микросхема
pins: 1 VIN (power), 2 LBO, 3 GND (power), 3 PGND (power), 4 PG, 5 FB, 6 LBI (power), 7 SYNC, 8 EN, 9 SW

## TPS62142RGTR
designator D?
Step-down; Manufacturer: Texas Instruments; Model: TPS62142RGTR; HelpURL: https://www.digikey.com/product-detail/en/texas-instruments/TPS62142RGTR/296-39447-1-ND/5143395; ComponentKind: 16-QFN
footprint 16-QFN (3x3) (QFN, 16-Leads, Body 3,00x3,00mm, Pitch 0,50mm, Thermal Pad 1,45x1,45mm, IPC Medium Density)
pins: 1 SW, 2 SW, 3 SW, 4 PG, 5 FB, 6 AGND, 7 FSW, 8 DEF, 9 SS, 10 AVIN, 11 PVIN, 12 PVIN, 13 EN, 14 VOS, 15 PGND, 16 PGND

## TPS62400DRCR
designator D?
Step-down (2 ch); Manufacturer: Texas Instruments; Model: TPS62400DRCR; HelpURL: https://www.digikey.com/product-detail/en/texas-instruments/TPS62400DRCR/296-25491-1-ND/2192984; ComponentKind: SOT23-6
footprint 10-VSON (3x3 mm) (QFN, 10-Leads, Body 3,00x3,00mm, Pitch 0,50mm, Thermal Pad 3,18x1,58mm, IPC Medium Density)
pins: 1 ADJ2, 2 MODE, 3 VIN, 4 FB1, 5 ADJ1, 6 SW1, 7 EN1, 8 GND, 9 EN2, 10 SW2

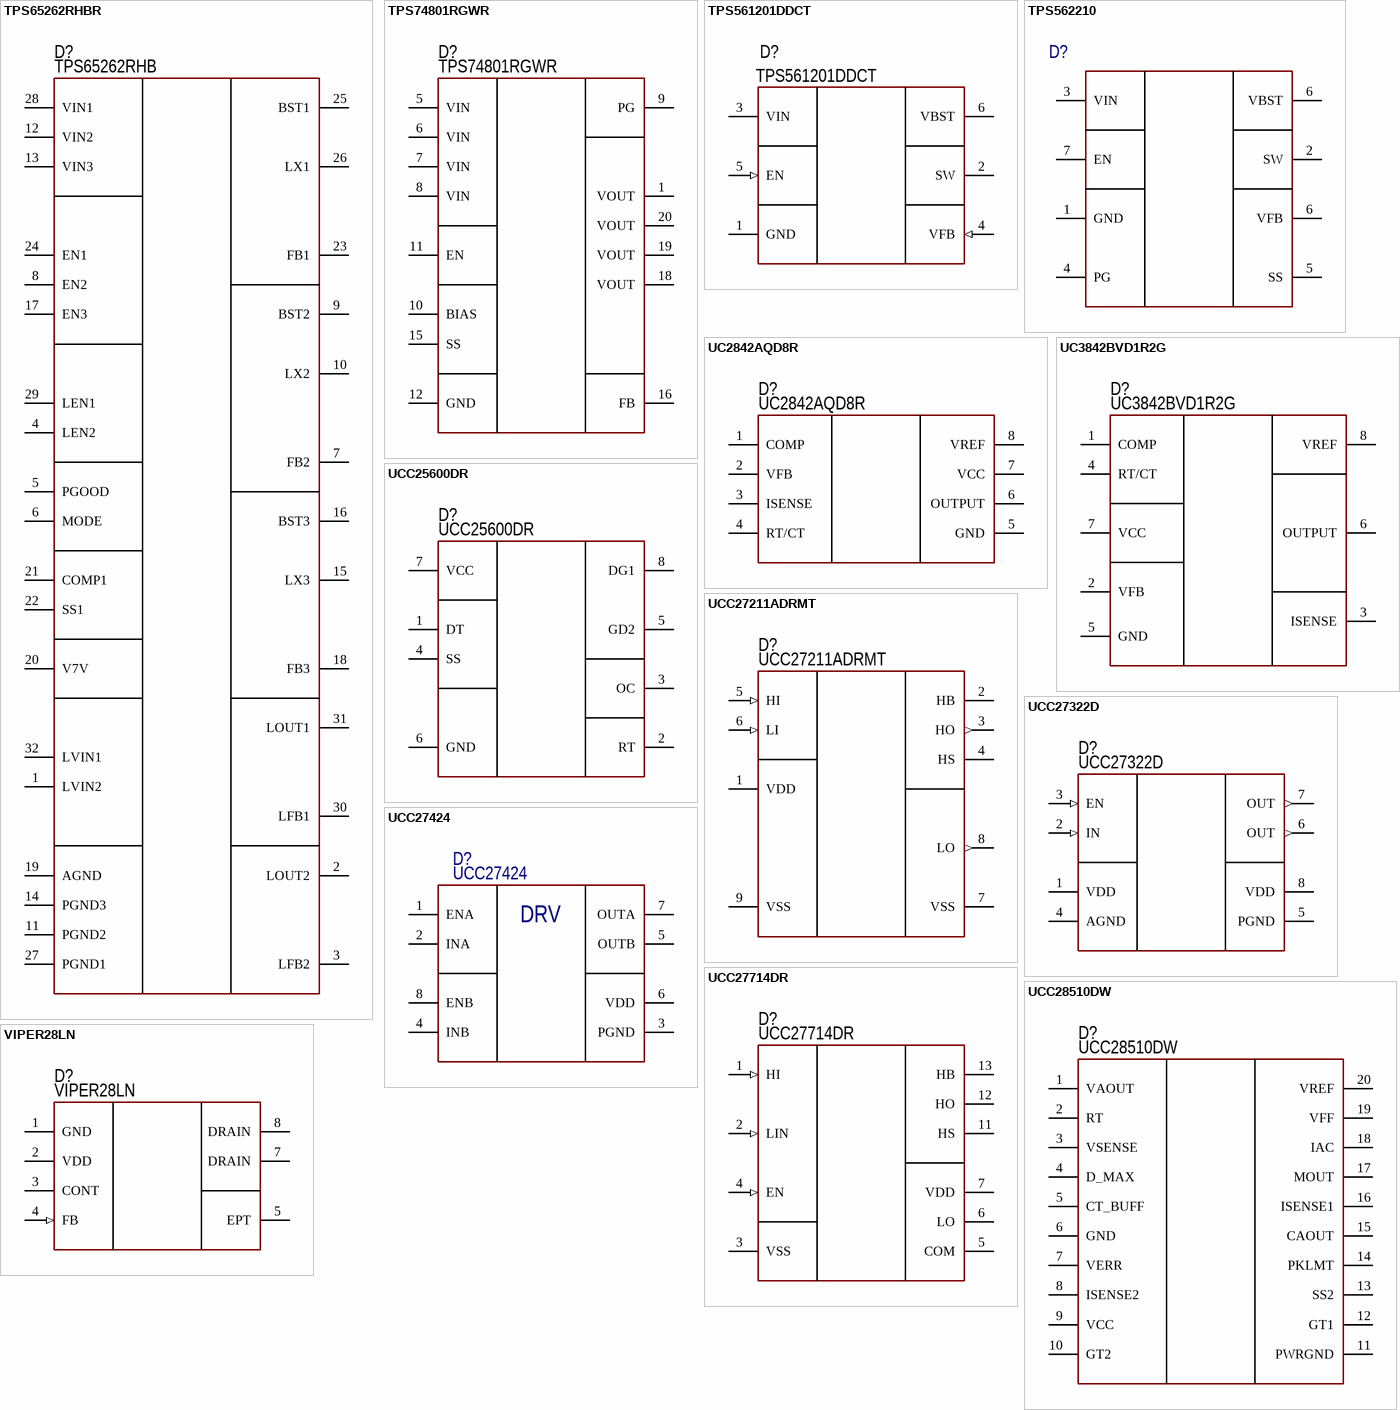
[diagram p4: symbols TPS65262RHBR to VIPER28LN]

## TPS65262RHBR
designator D?, comment TPS65262RHB
BUCK+LDO; Manufacturer: Texas Instruments; Model: TPS65262RHBR; HelpURL: https://www.digikey.com/product-detail/en/texas-instruments/TPS65262RHBR/296-41763-1-ND/5224542; ComponentKind: 32-QVQFN
footprint 32-QVQFN (5x5 mm) (QFN, 32-Leads, Body 5x5mm, Pitch 0.5mm, Thermal Pad 3.45x3.45mm, TI Recommended)
pins: 1 LVIN2, 2 LOUT2, 3 LFB2, 4 LEN2, 5 PGOOD, 6 MODE, 7 FB2, 8 EN2, 9 BST2, 10 LX2, 11 PGND2, 12 VIN2, 13 VIN3, 14 PGND3, 15 LX3, 16 BST3, 17 EN3, 18 FB3, 19 AGND, 20 V7V, 21 COMP1, 22 SS1, 23 FB1, 24 EN1, 25 BST1, 26 LX1, 27 PGND1, 28 VIN1, 29 LEN1, 30 LFB1, 31 LOUT1, 32 LVIN1

## TPS74801RGWR
designator D?
LDO; Manufacturer: Texas Instruments; Model: TPS74801RGWR; HelpURL: https://www.digikey.com/product-detail/en/texas-instruments/TPS74801RGWR/296-21977-1-ND/1632670; ComponentKind: 20-VQFN
footprint 20-VQFN (5x5 mm)
pins: 1 VOUT, 5 VIN, 6 VIN, 7 VIN, 8 VIN, 9 PG, 10 BIAS, 11 EN, 12 GND, 15 SS, 16 FB, 18 VOUT, 19 VOUT, 20 VOUT

## TPS561201DDCT
designator D?
Step-down; Manufacturer: Texas Instruments; Model: TPS561201DDCT; HelpURL: https://www.mouser.co.uk/ProductDetail/Texas-Instruments/TPS561201DDCT?qs=sGAEpiMZZMtitjHzVIkrqZzDzZChF5ZstqCcjzfjpVJKulhJ5HbziQ%3d%3d; ComponentKind: SOT23-6
footprint SOT23-6 (SOT23, 6-Leads, Body 2,90x2,45mm, Pitch 0,95mm, IPC Medium Density)
pins: 1 GND (power), 2 SW (power), 3 VIN (power), 4 VFB (in), 5 EN (in), 6 VBST (power)

## TPS562210
designator D?, comment TPS562210ADDF  (value not drawn)
2A 4.5 V to 17 V step-down converter; Manufacturer: TEXAS INSTRUMENTS; Model: TPS562210ADDF; Package: SOT-23; HelpURL: https://www.ti.com/lit/ds/symlink/tps563210a.pdf
pins: 1 GND (power), 2 SW (power), 3 VIN (power), 4 PG, 5 SS, 6 VFB, 6 VBST (power), 7 EN

## UC2842AQD8R
designator D?
AC-DC; Manufacturer: Texas Instruments; Model: UC2842AQD8R; HelpURL: https://www.digikey.com/product-detail/en/texas-instruments/UC2842AQD8R/296-15196-1-ND/565716; ComponentKind: 8-SOIC
footprint 8-SOIC
pins: 1 COMP, 2 VFB, 3 ISENSE, 4 RT/CT, 5 GND, 6 OUTPUT, 7 VCC, 8 VREF

## UC3842BVD1R2G
designator D?
AC-DC; Manufacturer: Texas Instruments; Model: UC3842BVD1R2G; HelpURL: https://www.digikey.com/product-detail/en/on-semiconductor/UC3842BVD1R2G/UC3842BVD1R2GOSCT-ND/5802572; ComponentKind: 8-SOIC
footprint 8-SOIC
pins: 1 COMP, 2 VFB, 3 ISENSE, 4 RT/CT, 5 GND, 6 OUTPUT, 7 VCC, 8 VREF

## UCC25600DR
designator D?
AC-DC; Manufacturer: Texas Instruments; Model: UCC25600DR; HelpURL: https://www.digikey.com/product-detail/en/texas-instruments/UCC25600DR/296-38315-1-ND/4967520; ComponentKind: 8-SOIC
footprint 8-SOIC
pins: 1 DT, 2 RT, 3 OC, 4 SS, 5 GD2, 6 GND, 7 VCC, 8 DG1

## UCC27211ADRMT
designator D?
Half-bridge; Manufacturer: Texas Instruments; Model: UCC27211ADRMT; HelpURL: https://www.digikey.com/product-detail/en/texas-instruments/UCC27211ADRMT/296-37013-1-ND/4430486; ComponentKind: 8-VSON
footprint 8-WDFN (4x4 mm)
pins: 1 VDD (power), 2 HB (power), 3 HO (out), 4 HS (power), 5 HI (in), 6 LI (in), 7 VSS (power), 8 LO (out), 9 VSS (power)

## UCC27322D
designator D?
Low driver; Manufacturer: Texas Instruments; Model: UCC27322D; HelpURL: https://www.digikey.com/product-detail/en/texas-instruments/UCC37322D/296-13687-5-ND/509719; ComponentKind: 8-SOIC
footprint 8-SOIC
pins: 1 VDD, 2 IN (in), 3 EN (in), 4 AGND, 5 PGND, 6 OUT (out), 7 OUT (out), 8 VDD

## UCC27424
designator D?
Low-side 4A dual MOSFET/IGBT driver; Manufacturer: Texas Instrumens; Model: UCC27424; Package: *; Link: http://www.ti.com/lit/ds/symlink/ucc27423.pdf
footprint 8-DIP
footprint 8-SOIC
footprint 8-MSOP
pins: 1 ENA, 2 INA, 3 PGND, 4 INB, 5 OUTB, 6 VDD, 7 OUTA, 8 ENB
text: DRV

## UCC27714DR
designator D?
Half-bridge; Manufacturer: Texas Instruments; Model: UCC27714DR; HelpURL: https://www.digikey.com/product-detail/en/texas-instruments/UCC27714DR/296-42701-1-ND/5455966; ComponentKind: 14-SOIC
footprint 14-SOIC
pins: 1 HI (in), 2 LIN (in), 3 VSS, 4 EN (in), 5 COM, 6 LO, 7 VDD, 11 HS, 12 HO, 13 HB

## UCC28510DW
designator D?
PFC+PWM; Manufacturer: Texas Instruments; Model: UCC28510DW; HelpURL: https://www.digikey.com/product-detail/en/texas-instruments/UCC28510DW/296-14218-5-ND/526054; ComponentKind: 20-SOIC
footprint 20-SOIC (W)
pins: 1 VAOUT, 2 RT, 3 VSENSE, 4 D_MAX, 5 CT_BUFF, 6 GND, 7 VERR, 8 ISENSE2, 9 VCC, 10 GT2, 11 PWRGND, 12 GT1, 13 SS2, 14 PKLMT, 15 CAOUT, 16 ISENSE1, 17 MOUT, 18 IAC, 19 VFF, 20 VREF

## VIPER28LN
designator D?
AC-DC; Manufacturer: STMicroelectronics; Model: VIPER28LN; HelpURL: https://www.digikey.com/products/en/integrated-circuits-ics/pmic-ac-dc-converters-offline-switchers/748?k=VIPER28LN; ComponentKind: 7-DIP
footprint 7-DIP (DIP; 7 Leads; Row Spacing 7.62 mm; Pitch 2.54 mm)
pins: 1 GND, 2 VDD, 3 CONT, 4 FB (in), 5 EPT, 7 DRAIN, 8 DRAIN